# Altium schematic symbol library SM08B-SRSS-TB_LF__SN_.SchLib: 1 symbol
Pins are listed as number, name and electrical type; pins without a type are passive.

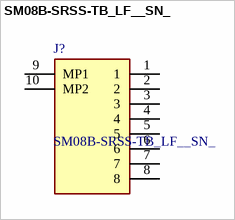
[diagram p0: symbol SM08B-SRSS-TB_LF__SN_]

## SM08B-SRSS-TB_LF__SN_
designator J?
Connector Header Surface Mount, Right Angle 8 position 0.039" (1.00mm); Manufacturer_Name: JST (JAPAN SOLDERLESS TERMINALS); Manufacturer_Part_Number: SM08B-SRSS-TB(LF)(SN); Geometry.Height: 2.95mm; Mouser Part Number: N/A; Mouser Price/Stock: https://www.mouser.co.uk/ProductDetail/JST-Commercial/SM08B-SRSS-TBLFSN?qs=QpmGXVUTftEPqGOAsnf4nQ%3D%3D; Datasheet Link: https://www.jst-mfg.com/product/pdf/eng/eSH.pdf?681342af00cbd
footprint SM08BSRSSTBLFSN
pins: 1, 2, 3, 4, 5, 6, 7, 8, 9 MP1, 10 MP2